# Altium footprint library molex_fd19_1.00mm_2005280040.PcbLib: 1 footprints
Each footprint in its own frame and in the unit in brackets; x right, y up, seen from the top. Pads: shape width x height; smd on the part's side, far side on the other; paste and mask are expansions set on the pad; w line width, h text height; cw(c..) or ccw(c..) is an arc to the next point about the centre after c.
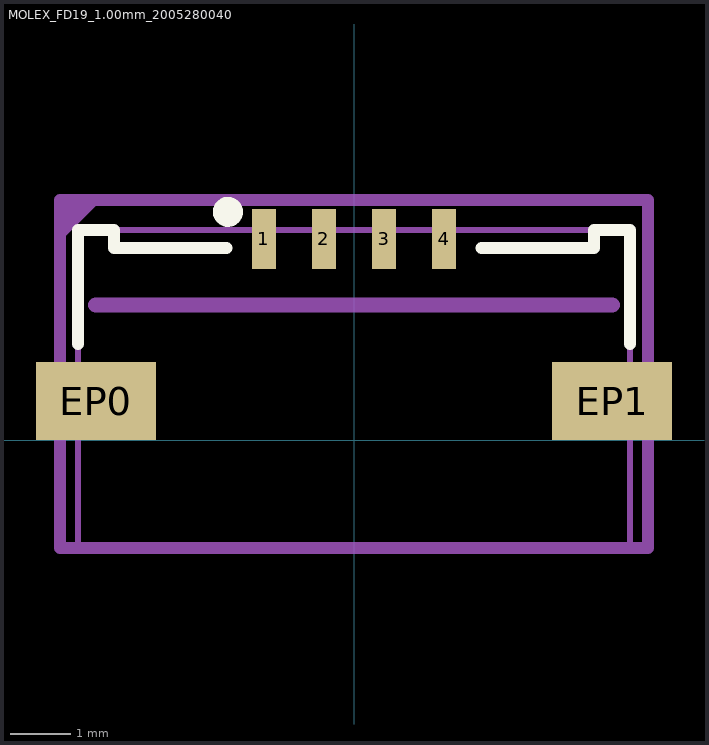
[diagram p0: the footprint, top view; thin cyan lines are the x and y axes]

## MOLEX_FD19_1.00mm_2005280040 [mm]
height 1.9
pads (6):
  rect 0.4x1 smd: 1(-1.5,3.35) 2(-0.5,3.35) 3(0.5,3.35) 4(1.5,3.35)
  rect 2x1.3 smd: EP0(-4.3,0.65) EP1(4.3,0.65)
Top Overlay:
  circle w0.25: c-2.1,3.8 r0.125
  lines w0.2: -4.6,1.6 -4.6,3.5 -4,3.5 -4,3.2 -2.125,3.2 ; 2.125,3.2 4,3.2 4,3.5 4.6,3.5 4.6,1.6
Mechanical 1:
  lines w0.254: -4.3,2.25 4.3,2.25
  text "End of Flex Tab" at -3.4,2.5 h0.5
Top 3D Body (Mech13):
  lines w0.1: -4.6,-1.75 -4.6,3.5 4.6,3.5 4.6,-1.75 -4.6,-1.75
Top Courtyard:
  region: -4.9,4 -4.9,3.3 -4.2,4
  lines w0.2: -4.9,-1.8 4.9,-1.8 4.9,4 -4.9,4 -4.9,-1.8
Top Designator:
  text ".Designator" at -1.699,-0.267 h0.8
3D body "2005280040_0.stp": height 1.91, standoff 0.01, extent -5,-1.75 5,3.55